# Altium schematic symbol library Lichee_Nano(Schematic library).SchLib: 1 symbol
Pins are listed as number, name and electrical type; pins without a type are passive.

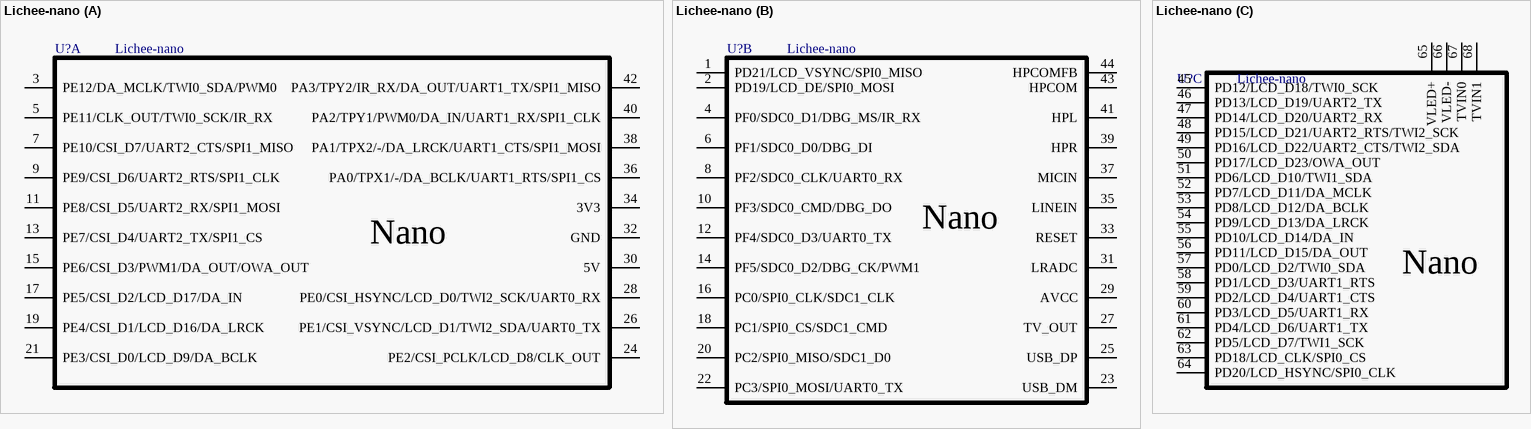
[diagram p0: symbol Lichee-nano]

## Lichee-nano
designator U?
footprint lpi-nano
footprint lpi-nano-dip
part A pins: 3 PE12/DA_MCLK/TWI0_SDA/PWM0, 5 PE11/CLK_OUT/TWI0_SCK/IR_RX, 7 PE10/CSI_D7/UART2_CTS/SPI1_MISO, 9 PE9/CSI_D6/UART2_RTS/SPI1_CLK, 11 PE8/CSI_D5/UART2_RX/SPI1_MOSI, 13 PE7/CSI_D4/UART2_TX/SPI1_CS, 15 PE6/CSI_D3/PWM1/DA_OUT/OWA_OUT, 17 PE5/CSI_D2/LCD_D17/DA_IN, 19 PE4/CSI_D1/LCD_D16/DA_LRCK, 21 PE3/CSI_D0/LCD_D9/DA_BCLK, 24 PE2/CSI_PCLK/LCD_D8/CLK_OUT, 26 PE1/CSI_VSYNC/LCD_D1/TWI2_SDA/UART0_TX, 28 PE0/CSI_HSYNC/LCD_D0/TWI2_SCK/UART0_RX, 30 5V, 32 GND, 34 3V3, 36 PA0/TPX1/-/DA_BCLK/UART1_RTS/SPI1_CS, 38 PA1/TPX2/-/DA_LRCK/UART1_CTS/SPI1_MOSI, 40 PA2/TPY1/PWM0/DA_IN/UART1_RX/SPI1_CLK, 42 PA3/TPY2/IR_RX/DA_OUT/UART1_TX/SPI1_MISO
part B pins: 1 PD21/LCD_VSYNC/SPI0_MISO, 2 PD19/LCD_DE/SPI0_MOSI, 4 PF0/SDC0_D1/DBG_MS/IR_RX, 6 PF1/SDC0_D0/DBG_DI, 8 PF2/SDC0_CLK/UART0_RX, 10 PF3/SDC0_CMD/DBG_DO, 12 PF4/SDC0_D3/UART0_TX, 14 PF5/SDC0_D2/DBG_CK/PWM1, 16 PC0/SPI0_CLK/SDC1_CLK, 18 PC1/SPI0_CS/SDC1_CMD, 20 PC2/SPI0_MISO/SDC1_D0, 22 PC3/SPI0_MOSI/UART0_TX, 23 USB_DM, 25 USB_DP, 27 TV_OUT, 29 AVCC, 31 LRADC, 33 RESET, 35 LINEIN, 37 MICIN, 39 HPR, 41 HPL, 43 HPCOM, 44 HPCOMFB
part C pins: 45 PD12/LCD_D18/TWI0_SCK, 46 PD13/LCD_D19/UART2_TX, 47 PD14/LCD_D20/UART2_RX, 48 PD15/LCD_D21/UART2_RTS/TWI2_SCK, 49 PD16/LCD_D22/UART2_CTS/TWI2_SDA, 50 PD17/LCD_D23/OWA_OUT, 51 PD6/LCD_D10/TWI1_SDA, 52 PD7/LCD_D11/DA_MCLK, 53 PD8/LCD_D12/DA_BCLK, 54 PD9/LCD_D13/DA_LRCK, 55 PD10/LCD_D14/DA_IN, 56 PD11/LCD_D15/DA_OUT, 57 PD0/LCD_D2/TWI0_SDA, 58 PD1/LCD_D3/UART1_RTS, 59 PD2/LCD_D4/UART1_CTS, 60 PD3/LCD_D5/UART1_RX, 61 PD4/LCD_D6/UART1_TX, 62 PD5/LCD_D7/TWI1_SCK, 63 PD18/LCD_CLK/SPI0_CS, 64 PD20/LCD_HSYNC/SPI0_CLK, 65 VLED+, 66 VLED-, 67 TVIN0, 68 TVIN1
part A text: Nano
part B text: Nano
part C text: Nano